# EAGLE library part IP4283CZ10 (library eagle-book)
NXP ElectroStatic Discharge (ESD) Protector
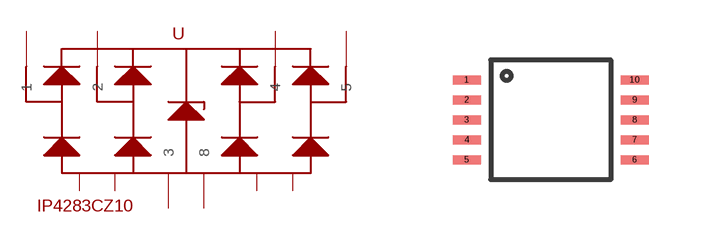
[diagram p10: symbol with the pads of SOT552-1; footprint SOT552-1]

Designator prefix U

## IP4283CZ10-TT  [SOT552-1]
1  1
2  2
3  3
4  4
5  5
6  6  nc
7  7  nc
8  8
9  9  nc
10  10  nc

## Footprint SOT552-1 (pad centres in mm)
10-lead Plastic thin small outline package
smd 0.7 x 0.225: 1 -2.1,1; 2 -2.1,0.5; 3 -2.1,0; 4 -2.1,-0.5; 5 -2.1,-1; 6 2.1,-1; 7 2.1,-0.5; 8 2.1,0; 9 2.1,0.5; 10 2.1,1